# EAGLE library part COMMODORE_64_EXPANSION_PORT_CARD_EDGE (library commodore-card-edges)
Commodore 64 44-Contact (22 top + 22 bottom) Expansion Port Card-Edge. Contacts are 0.05" x 0.35" on a 0.1" pitch. Contacts are numbered 1 to 22 on top and A to Z on bottom (excludes G, I, O, and Q). Contacts 1 and A are on same end of card-edge. Card edge protrudes 0.55" from main circuit board.
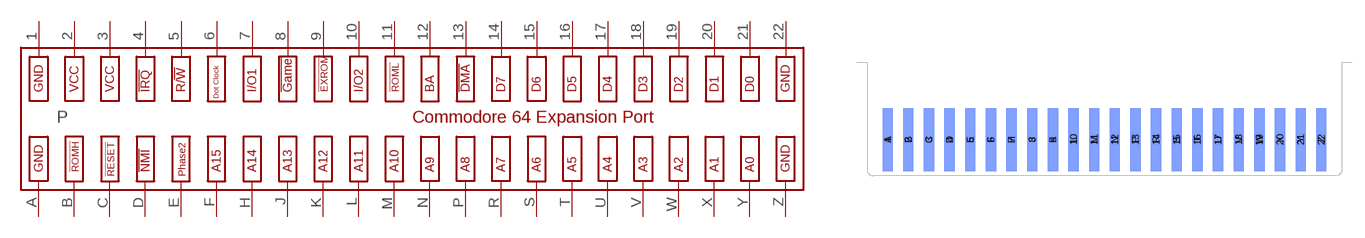
[diagram p2: symbol with the pads of COMMODORE_64_EXPANSION_PORT_CARD_EDGE; footprint COMMODORE_64_EXPANSION_PORT_CARD_EDGE]

Designator prefix P

## COMMODORE_64_EXPANSION_PORT_CARD_EDGE  [COMMODORE_64_EXPANSION_PORT_CARD_EDGE]
1  GND  pwr
2  VCC  pwr
3  VCC  pwr
4  !IRQ
5  R/!W
6  DOT_CLOCK
7  I/O1
8  !GAME
9  !EXROM
10  I/O2
11  !ROML
12  BA
13  !DMA
14  D7
15  D6
16  D5
17  D4
18  D3
19  D2
20  D1
21  D0
22  GND  pwr
A  GND  pwr
B  !ROMH
C  !RESET
D  !NMI
E  PHASE2
F  A15
H  A14
J  A13
K  A12
L  A11
M  A10
N  A9
P  A8
R  A7
S  A6
T  A5
U  A4
V  A3
W  A2
X  A1
Y  A0
Z  GND  pwr

## Footprint COMMODORE_64_EXPANSION_PORT_CARD_EDGE (pad centres in mm)
Commodore 64 44-Contact (22 top + 22 bottom) Expansion Port Card-Edge. Contacts are 0.05" x 0.35" on a 0.1" pitch. Contacts are numbered 1 to 22 on top and A to Z on bottom (excludes G, I, O, and Q). Contacts 1 and A are on same end of card-edge. Card edge protrudes 0.55" from main circuit board.
smd 1.27 x 7.747: 1 -26.67,0; 2 -24.13,0; 3 -21.59,0; 4 -19.05,0; 5 -16.51,0; 6 -13.97,0; 7 -11.43,0; 8 -8.89,0; 9 -6.35,0; 10 -3.81,0; 11 -1.27,0; 12 1.27,0; 13 3.81,0; 14 6.35,0; 15 8.89,0; 16 11.43,0; 17 13.97,0; 18 16.51,0; 19 19.05,0; 20 21.59,0; 21 24.13,0; 22 26.67,0
smd 1.27 x 7.747 bottom: A -26.67,0; B -24.13,0; C -21.59,0; D -19.05,0; E -16.51,0; F -13.97,0; H -11.43,0; J -8.89,0; K -6.35,0; L -3.81,0; M -1.27,0; N 1.27,0; P 3.81,0; R 6.35,0; S 8.89,0; T 11.43,0; U 13.97,0; V 16.51,0; W 19.05,0; X 21.59,0; Y 24.13,0; Z 26.67,0